# EAGLE library part GND-8 (library home-mind)
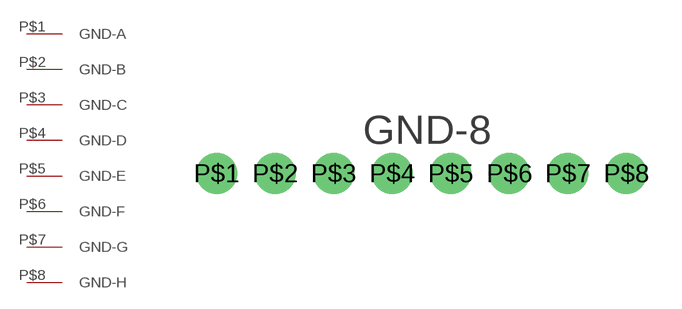
[diagram p2: symbol with the pads of GND-8; footprint GND-8]

Designator prefix -

## GND-8  [GND-8]
P$1  GND-A
P$2  GND-B
P$3  GND-C
P$4  GND-D
P$5  GND-E
P$6  GND-F
P$7  GND-G
P$8  GND-H

## Footprint GND-8 (pad centres in mm)
drill 0.9 pad 1.778: P$1 0,0; P$2 2.54,0; P$3 5.08,0; P$4 7.62,0; P$5 10.16,0; P$6 12.7,0; P$7 15.24,0; P$8 17.78,0